# Altium schematic symbol library THN_20-xxxx (WI).SchLib: 1 symbol
Pins are listed as number, name and electrical type; pins without a type are passive.

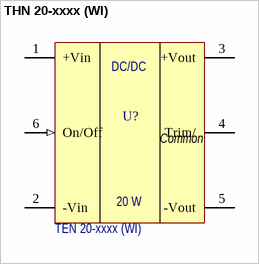
[diagram p0: symbol THN 20-xxxx (WI)]

## THN 20-xxxx (WI)
designator U?, comment TEN 20-xxxx (WI)
DC-DC Converter; Потребление, Вт: 0.0; Вх. диапазон, В: X-X; Назначение: DC-DC Converter; ComponentLink1Description: DataSheet; ComponentLink1URL: https://static.chipdip.ru/lib/377/DOC029377636.pdf; Наименование: TEN 20-xxxx (WI)
footprint THN 20-xxxx (WI)
pins: 1 +Vin (power), 2 -Vin (power), 3 +Vout (power), 4 Trim/, 5 -Vout (power), 6 On/Off (in)
text: DC/DC; Common; 20 W